# Altium schematic symbol library RES 0.15 1W WIDE.Schlib: 1 symbol
Pins are listed as number, name and electrical type; pins without a type are passive.

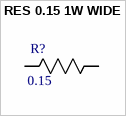
[diagram p0: symbol RES 0.15 1W WIDE]

## RES 0.15 1W WIDE
designator R?, comment 0.15
RES SMD 0.15 OHM 1% 1W 0508; Package: 0508; Value: 0.15; Power (Watts): 1W; Tolerance: 1%
footprint 0508
pins: 1 R1, 2 R2